# EAGLE library part CLM-110-02 (library Neel)
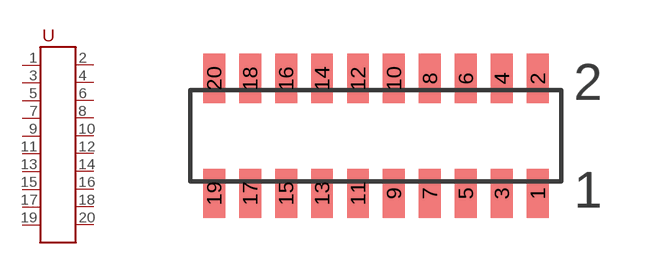
[diagram p83: symbol with the pads of CLM-110-02; footprint CLM-110-02]

Designator prefix -

## CLM-110-02  [CLM-110-02]
1  1
2  2
3  3
4  4
5  5
6  6
7  7
8  8
9  9
10  10
11  11
12  12
13  13
14  14
15  15
16  16
17  17
18  18
19  19
20  20

## Footprint CLM-110-02 (pad centres in mm)
smd 0.61 x 1.37: 1 4.5,-1.6; 2 4.5,1.6; 3 3.5,-1.6; 4 3.5,1.6; 5 2.5,-1.6; 6 2.5,1.6; 7 1.5,-1.6; 8 1.5,1.6; 9 0.5,-1.6; 10 0.5,1.6; 11 -0.5,-1.6; 12 -0.5,1.6; 13 -1.5,-1.6; 14 -1.5,1.6; 15 -2.5,-1.6; 16 -2.5,1.6; 17 -3.5,-1.6; 18 -3.5,1.6; 19 -4.5,-1.6; 20 -4.5,1.6